# Altium schematic symbol library C601195.SchLib: 1 symbol
Pins are listed as number, name and electrical type; pins without a type are passive.

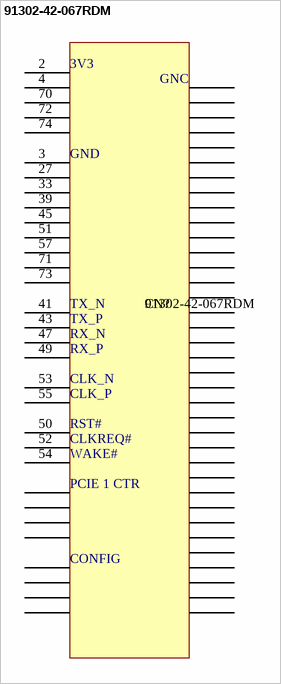
[diagram p0: symbol 91302-42-067RDM]

## 91302-42-067RDM
designator CN?
67P Surface Mount, Right Angle SMD,P=0.5mm Centronics Connectors RoHS; Name: C601195; Source: LCSC
footprint CONN-SMD_91302-32-067RDM (67P Surface Mount, Right Angle SMD,P=0.5mm Centronics Connectors RoHS)
pins: 1, 2, 3, 4, 5, 6, 7, 8, 9, 10, 11, 12, 13, 14, 15, 16, 17, 18, 19, 20, 21, 22, 23, 24, 25, 26, 27, 28, 29, 30, 31, 32, 33, 34, 35, 36, 37, 38, 39, 40, 41, 42, 43, 44, 45, 46, 47, 48, 49, 50, 51, 52, 53, 54, 55, 56, 57, 58, 67, 68, 69, 70, 71, 72, 73, 74, 75
text: 3V3; GNC; GND; TX_N; TX_P; RX_N; RX_P; CLK_N; CLK_P; RST#; CLKREQ#; WAKE#; PCIE 1 CTR; CONFIG